# EAGLE library part NRF2401A (library IC)
http://www.sparkfun.com/datasheets/IC/nRF2401A.pdf
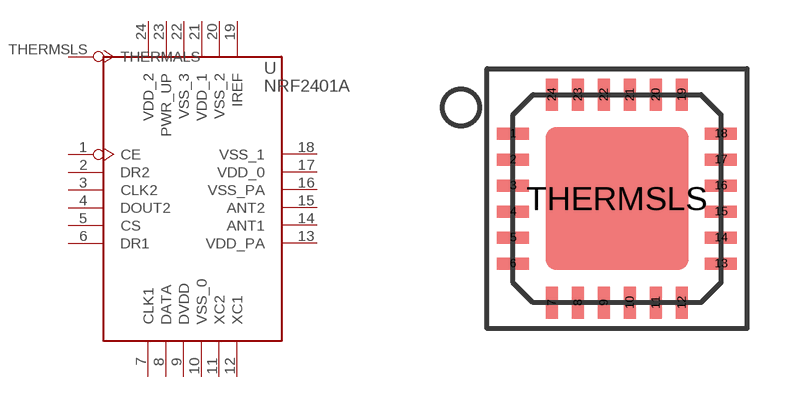
[diagram p114: symbol with the pads of QFN24; footprint QFN24]

Designator prefix U

## NRF2401A  [QFN24]
1  CE
2  DR2
3  CLK2
4  DOUT2
5  CS
6  DR1
7  CLK1
8  DATA
9  DVDD
10  VSS_0
11  XC2
12  XC1
13  VDD_PA
14  ANT1
15  ANT2
16  VSS_PA
17  VDD_0
18  VSS_1
19  IREF
20  VSS_2
21  VDD_1
22  VSS_3
23  PWR_UP
24  VDD_2
THERMSLS  THERMALS

## Footprint QFN24 (pad centres in mm)
smd 0.8 x 0.3: 1 -2.66,1.64; 2 -2.66,0.99; 3 -2.66,0.34; 4 -2.66,-0.31; 5 -2.66,-0.96; 6 -2.66,-1.61; 13 2.54,-1.61; 14 2.54,-0.96; 15 2.54,-0.31; 16 2.54,0.34; 17 2.54,0.99; 18 2.54,1.64
smd 0.3 x 0.8: 7 -1.685,-2.585; 8 -1.035,-2.585; 9 -0.385,-2.585; 10 0.265,-2.585; 11 0.915,-2.585; 12 1.565,-2.585; 19 1.565,2.615; 20 0.915,2.615; 21 0.265,2.615; 22 -0.385,2.615; 23 -1.035,2.615; 24 -1.685,2.615
smd 3.57 x 3.57: THERMSLS -0.06,0.015